# Altium footprint library 632723300011.PcbLib: 1 footprints
Each footprint in its own frame and in the unit in brackets; x right, y up, seen from the top. Pads: shape width x height; smd on the part's side, far side on the other; paste and mask are expansions set on the pad; w line width, h text height; cw(c..) or ccw(c..) is an arc to the next point about the centre after c.
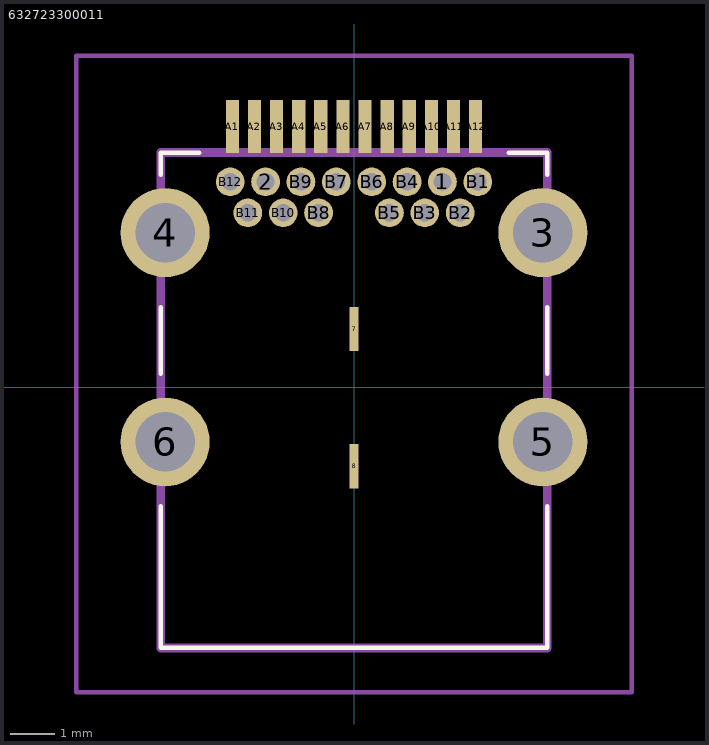
[diagram p0: the footprint, top view; thin cyan lines are the x and y axes]

## 632723300011 [mm]
pads (32):
  round 0.65 hole 0.4: 1(2,4.645) 2(-2,4.645) B1(2.8,4.645) B2(2.4,3.945) B3(1.6,3.945) B4(1.2,4.645) B5(0.8,3.945) B6(0.4,4.645) B7(-0.4,4.645) B8(-0.8,3.945) B9(-1.2,4.645) B10(-1.6,3.945) B11(-2.4,3.945) B12(-2.8,4.645)
  round 2.012 hole 1.342: 3(4.27,3.495) 4(-4.27,3.495) 5(4.27,-1.235) 6(-4.27,-1.235)
  rect 0.2x1 smd: 7(0,1.315) 8(0,-1.785)
  rect 0.3x1.2 smd: A1(-2.75,5.895) A2(-2.25,5.895) A3(-1.75,5.895) A4(-1.25,5.895) A5(-0.75,5.895) A6(-0.25,5.895) A7(0.25,5.895) A8(0.75,5.895) A9(1.25,5.895) A10(1.75,5.895) A11(2.25,5.895) A12(2.75,5.895)
Top Overlay:
  lines w0.1: -4.37,-2.695 -4.37,-5.895 4.37,-5.895 4.37,-2.695 ; -4.37,0.305 -4.37,1.805 ; -4.37,4.805 -4.37,5.305 -3.5,5.305 ; 3.5,5.305 4.37,5.305 4.37,4.805 ; 4.37,0.305 4.37,1.805
Mechanical 15:
  lines w0.2: -4.37,-5.895 4.37,-5.895 4.37,5.305 -4.37,5.305 -4.37,-5.895
Mechanical 20:
  lines w0.1: -6.276,-6.895 6.276,-6.895 6.276,7.495 -6.276,7.495 -6.276,-6.895